# EAGLE library part A075-1300M2 (library saw-filters-narrowband)
A075-1300M2 Параметр Ед. изм. Мин. значение Тип. значение Макс. значение Центральная частота МГц 1297 1300 1303 Минимальное вносимое затухание дБ 2.8 3.1 4 Полоса среза по уровню -2 дБ МГц 17.5 19 - Полоса среза по уровню -25 дБ МГц - 46 - Неравномерность АЧХ дБ - 0.6 2 Групповое время задержки нс - - - Гарантированное затухание дБ - 45 - Температурный диапазон °C -55 22 +85 Материал подложки - - Танталат лития 36 - Разработан: ООО"АЭК Дизайн" Серийное производство: ООО"АЭК
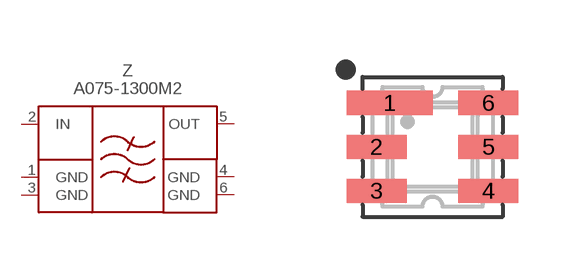
[diagram p44: symbol with the pads of DCC6; footprint DCC6]

Designator prefix Z

## A075-1300M2  [DCC6]
1  GND  pwr
2  IN  in
3  GND  pwr
4  GND  pwr
5  OUT  out
6  GND  pwr

## Footprint DCC6 (pad centres in mm)
smd 2.15 x 0.6: 1 -1.075,1.1
smd 1.5 x 0.6: 2 -1.4,0; 3 -1.4,-1.1; 4 1.4,-1.1; 5 1.4,0; 6 1.4,1.1